# EAGLE library part AD8226 (library Harrington-ICs v130)
Instrumentation Amplifier Analog Devices - Voltage Rails: 2.2-36V - Bandwidth: 1.5MHz - Gain: 1-1000
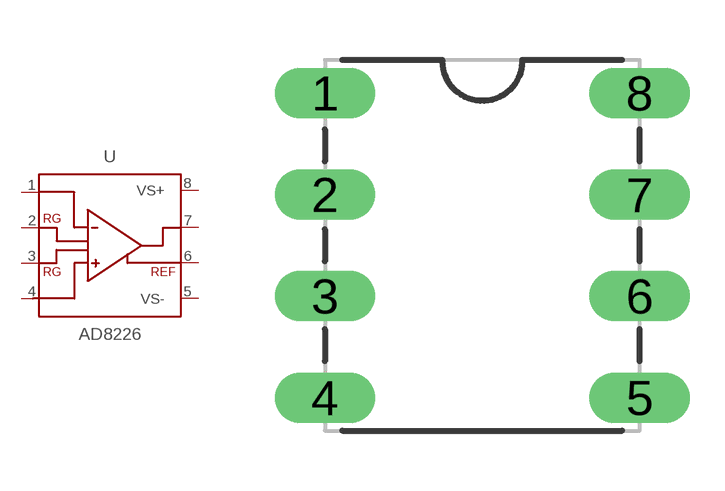
[diagram p22: symbol with the pads of 8P3-PDIP; footprint 8P3-PDIP]

Designator prefix U

## AD8226-PDIP  [8P3-PDIP]
1  IN-  in
2  RG2
3  RG3
4  IN+  in
5  VS-  pwr
6  REF  in
7  VOUT  out
8  VS+  pwr

## Footprint 8P3-PDIP (pad centres in mm)
drill 0.75 long: 1 -3.937,3.81; 2 -3.937,1.27; 3 -3.937,-1.27; 4 -3.937,-3.81; 5 3.937,-3.81; 6 3.937,-1.27; 7 3.937,1.27; 8 3.937,3.81